# Altium footprint library FT230X.PcbLib: 1 footprints
Each footprint in its own frame and in the unit in brackets; x right, y up, seen from the top. Pads: shape width x height; smd on the part's side, far side on the other; paste and mask are expansions set on the pad; w line width, h text height; cw(c..) or ccw(c..) is an arc to the next point about the centre after c.
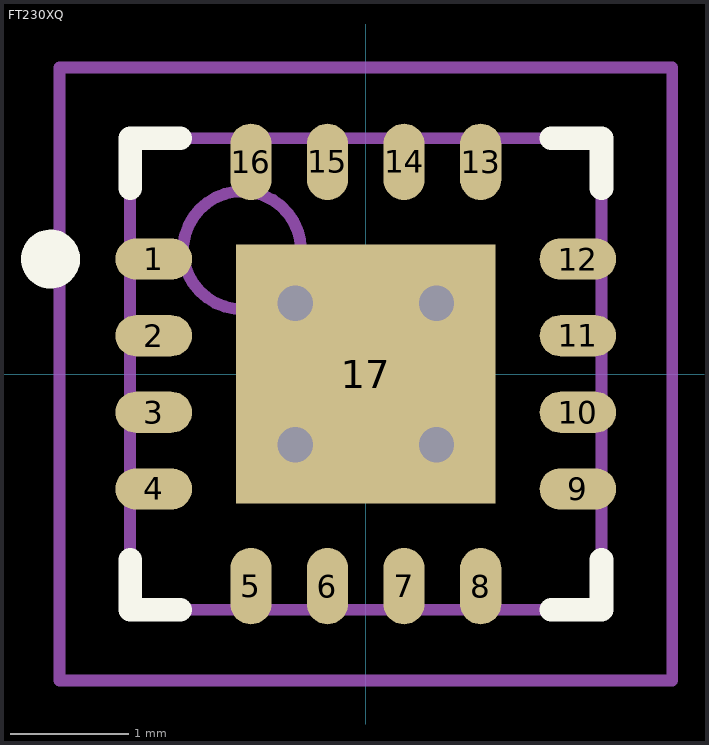
[diagram p0: the footprint, top view; thin cyan lines are the x and y axes]

## FT230XQ [mm] "QFN, 16-Leads, Body 4,0x4,0mm (max), Pitch 0,65mm, IPC Medium Density"
height 0.75
pads (17):
  oval 0.65x0.35 smd: 1(-1.8,0.975) 2(-1.8,0.325) 3(-1.8,-0.325) 4(-1.8,-0.975) 9(1.8,-0.975) 10(1.8,-0.325) 11(1.8,0.325) 12(1.8,0.975)
  oval 0.35x0.65 smd: 5(-0.975,-1.8) 6(-0.325,-1.8) 7(0.325,-1.8) 8(0.975,-1.8) 13(0.975,1.8) 14(0.325,1.8) 15(-0.325,1.8) 16(-0.975,1.8)
  rect 2.2x2.2 smd: 17(0,0)
via 0.6,-0.6 diameter 0.6 hole 0.3
via -0.6,-0.6 diameter 0.6 hole 0.3
via 0.6,0.6 diameter 0.6 hole 0.3
via -0.6,0.6 diameter 0.6 hole 0.3
Top Overlay:
  circle w0.25: c-2.675,0.975 r0.125
  lines w0.2: -2,-1.575 -2,-2 -1.575,-2 ; -2,1.575 -2,2 -1.575,2 ; 1.575,-2 2,-2 2,-1.575 ; 1.575,2 2,2 2,1.575
Mechanical 13:
  circle w0.1: c-1.05,1.05 r0.5
  lines w0.1: -2,-2 2,-2 2,2 -2,2 -2,-2
Mechanical 15:
  lines w0.1: -0.5,0 0.5,0 ; 0,-0.5 0,0.5 ; -2.6,-2.6 2.6,-2.6 2.6,2.6 -2.6,2.6 -2.6,-2.6
3D body: height 0.75, standoff 0.02, extent -2,-2 2,2